# Altium schematic symbol library OS ARM.SchLib: 2 symbols
Pins are listed as number, name and electrical type; pins without a type are passive.

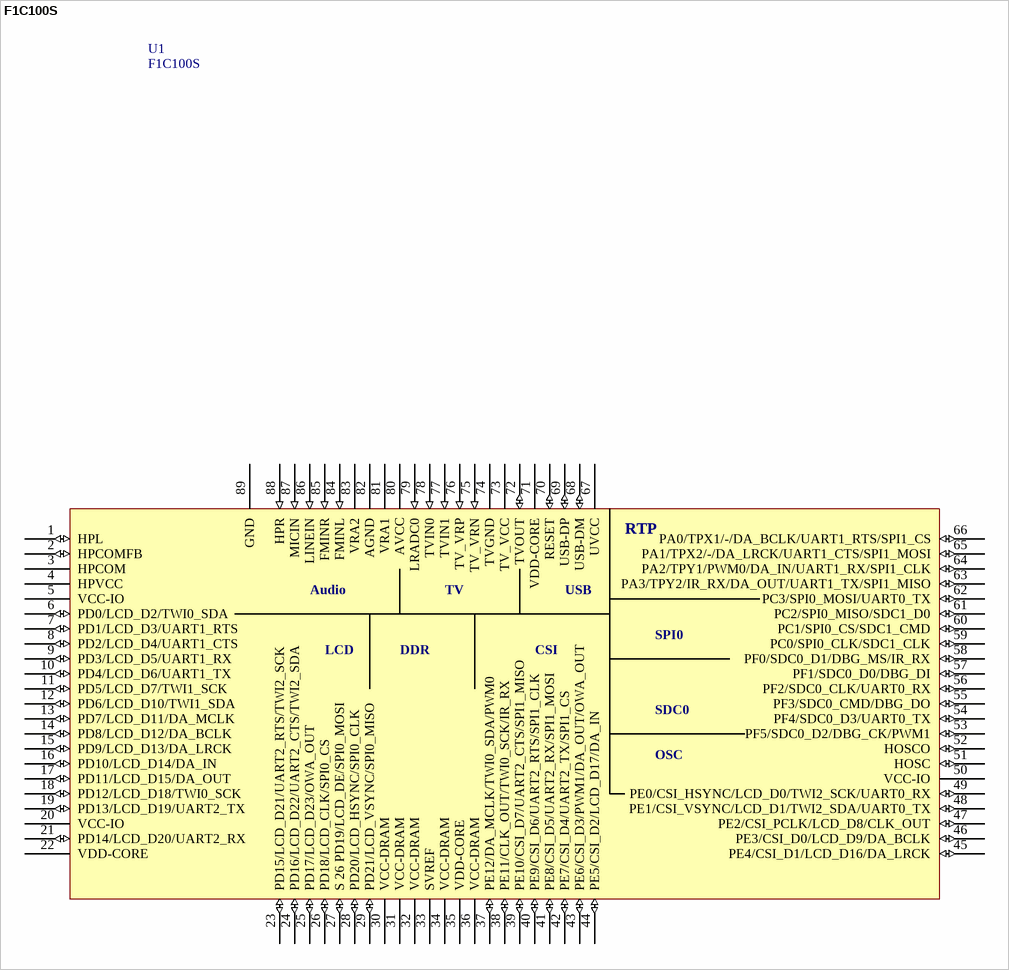
[diagram p0: symbol F1C100S]

## F1C100S
designator U1
Valu: F1C100S
footprint f1c200s-f1c100s
pins: 1 HPL (io), 2 HPCOMFB (io), 3 HPCOM, 4 HPVCC, 5 VCC-IO, 6 PD0/LCD_D2/TWI0_SDA (io), 7 PD1/LCD_D3/UART1_RTS (io), 8 PD2/LCD_D4/UART1_CTS (io), 9 PD3/LCD_D5/UART1_RX (io), 10 PD4/LCD_D6/UART1_TX (io), 11 PD5/LCD_D7/TWI1_SCK (io), 12 PD6/LCD_D10/TWI1_SDA (io), 13 PD7/LCD_D11/DA_MCLK (io), 14 PD8/LCD_D12/DA_BCLK (io), 15 PD9/LCD_D13/DA_LRCK (io), 16 PD10/LCD_D14/DA_IN (io), 17 PD11/LCD_D15/DA_OUT (io), 18 PD12/LCD_D18/TWI0_SCK (io), 19 PD13/LCD_D19/UART2_TX (io), 20 VCC-IO, 21 PD14/LCD_D20/UART2_RX (io), 22 VDD-CORE, 23 PD15/LCD_D21/UART2_RTS/TWI2_SCK (io), 24 PD16/LCD_D22/UART2_CTS/TWI2_SDA (io), 25 PD17/LCD_D23/OWA_OUT (io), 26 PD18/LCD_CLK/SPI0_CS (io), 27 S 26 PD19/LCD_DE/SPI0_MOSI (io), 28 PD20/LCD_HSYNC/SPI0_CLK (io), 29 PD21/LCD_VSYNC/SPI0_MISO (io), 30 VCC-DRAM, 31 VCC-DRAM, 32 VCC-DRAM, 33 SVREF, 34 VCC-DRAM, 35 VDD-CORE, 36 VCC-DRAM, 37 PE12/DA_MCLK/TWI0_SDA/PWM0 (io), 38 PE11/CLK_OUT/TWI0_SCK/IR_RX (io), 39 PE10/CSI_D7/UART2_CTS/SPI1_MISO (io), 40 PE9/CSI_D6/UART2_RTS/SPI1_CLK (io), 41 PE8/CSI_D5/UART2_RX/SPI1_MOSI (io), 42 PE7/CSI_D4/UART2_TX/SPI1_CS (io), 43 PE6/CSI_D3/PWM1/DA_OUT/OWA_OUT (io), 44 PE5/CSI_D2/LCD_D17/DA_IN (io), 45 PE4/CSI_D1/LCD_D16/DA_LRCK (io), 46 PE3/CSI_D0/LCD_D9/DA_BCLK (io), 47 PE2/CSI_PCLK/LCD_D8/CLK_OUT (io), 48 PE1/CSI_VSYNC/LCD_D1/TWI2_SDA/UART0_TX (io), 49 PE0/CSI_HSYNC/LCD_D0/TWI2_SCK/UART0_RX (io), 50 VCC-IO, 51 HOSC (io), 52 HOSCO (io), 53 PF5/SDC0_D2/DBG_CK/PWM1 (io), 54 PF4/SDC0_D3/UART0_TX (io), 55 PF3/SDC0_CMD/DBG_DO (io), 56 PF2/SDC0_CLK/UART0_RX (io), 57 PF1/SDC0_D0/DBG_DI (io), 58 PF0/SDC0_D1/DBG_MS/IR_RX (io), 59 PC0/SPI0_CLK/SDC1_CLK (io), 60 PC1/SPI0_CS/SDC1_CMD (io), 61 PC2/SPI0_MISO/SDC1_D0 (io), 62 PC3/SPI0_MOSI/UART0_TX (io), 63 PA3/TPY2/IR_RX/DA_OUT/UART1_TX/SPI1_MISO (io), 64 PA2/TPY1/PWM0/DA_IN/UART1_RX/SPI1_CLK (io), 65 PA1/TPX2/-/DA_LRCK/UART1_CTS/SPI1_MOSI (io), 66 PA0/TPX1/-/DA_BCLK/UART1_RTS/SPI1_CS (io), 67 UVCC, 68 USB-DM (io), 69 USB-DP (io), 70 RESET (io), 71 VDD-CORE, 72 TVOUT (io), 73 TV_VCC, 74 TVGND, 75 TV_VRN (in), 76 TV_VRP (in), 77 TVIN1 (in), 78 TVIN0 (in), 79 LRADC0 (in), 80 AVCC, 81 VRA1, 82 AGND, 83 VRA2, 84 FMINL (in), 85 FMINR (in), 86 LINEIN (in), 87 MICIN (in), 88 HPR (in), 89 GND
text: RTP; Audio; TV; USB; SPI0; LCD; DDR; CSI; SDC0; OSC

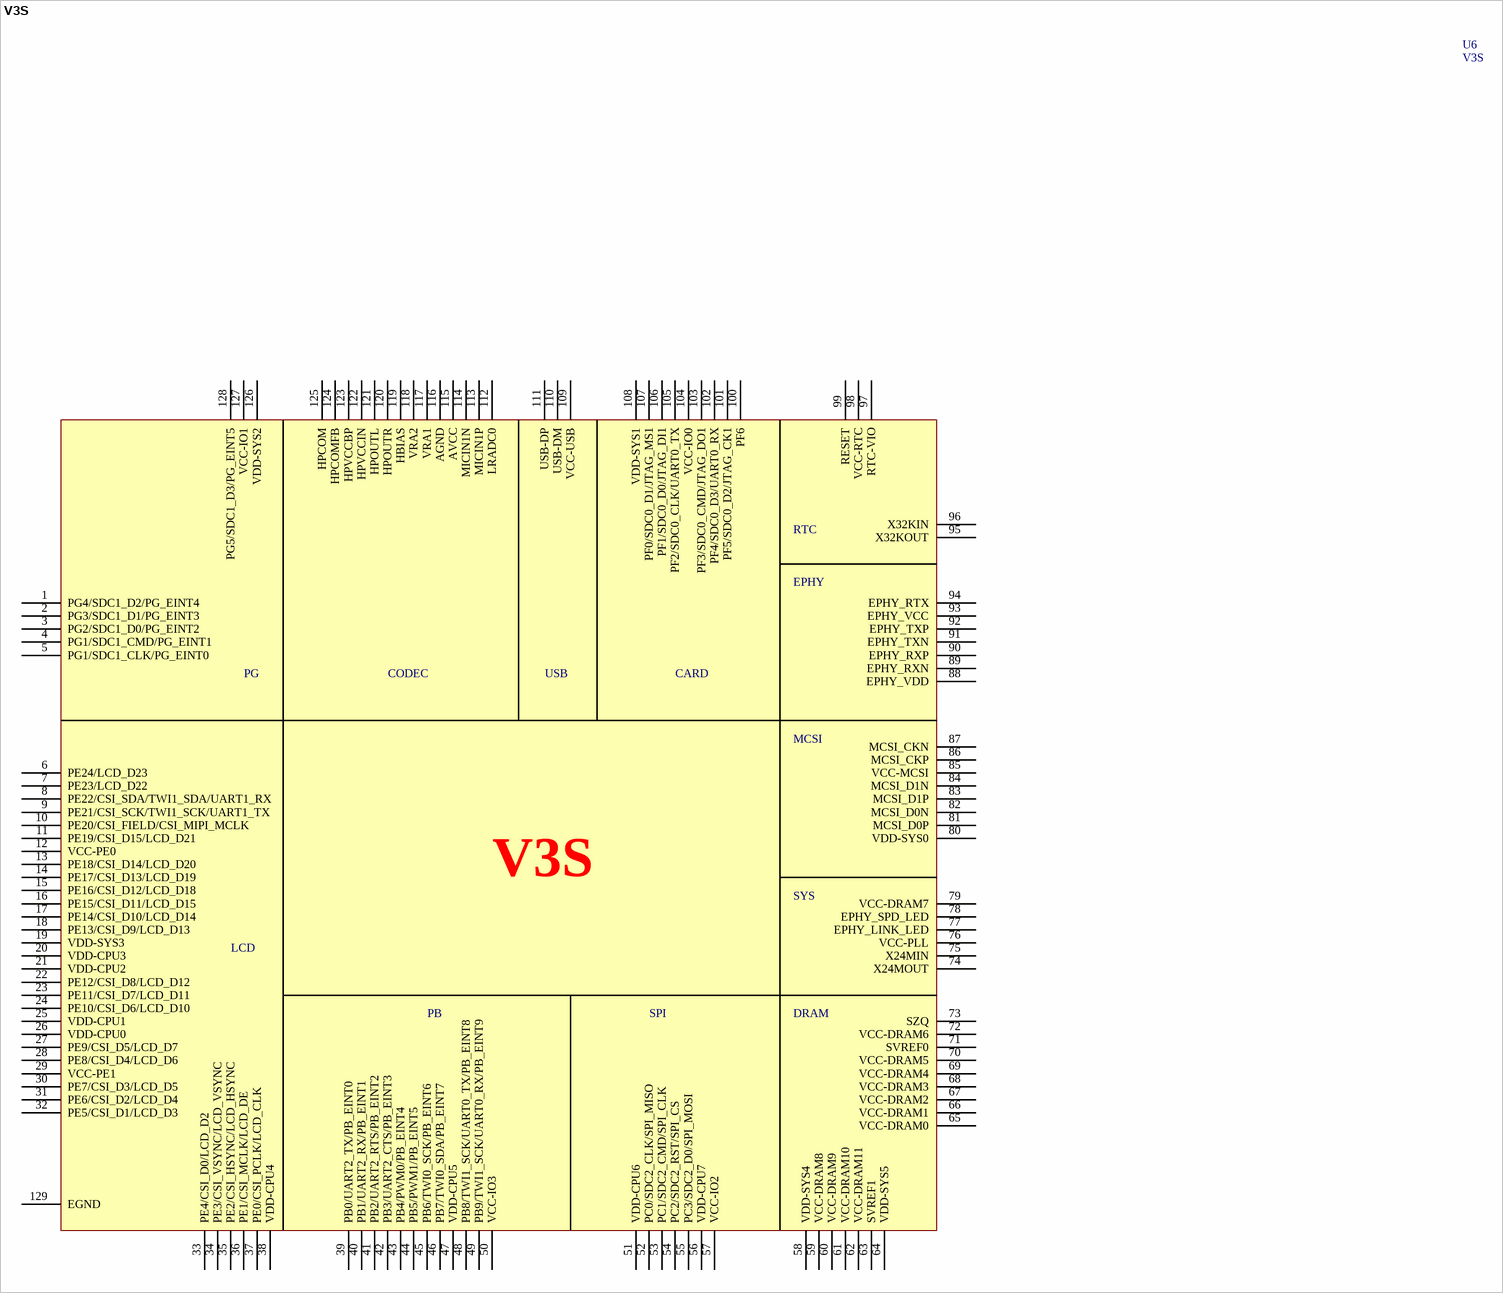
[diagram p1: symbol V3S]

## V3S
designator U6
Valu: V3S
footprint V3S
pins: 1 PG4/SDC1_D2/PG_EINT4, 2 PG3/SDC1_D1/PG_EINT3, 3 PG2/SDC1_D0/PG_EINT2, 4 PG1/SDC1_CMD/PG_EINT1, 5 PG1/SDC1_CLK/PG_EINT0, 6 PE24/LCD_D23, 7 PE23/LCD_D22, 8 PE22/CSI_SDA/TWI1_SDA/UART1_RX, 9 PE21/CSI_SCK/TWI1_SCK/UART1_TX, 10 PE20/CSI_FIELD/CSI_MIPI_MCLK, 11 PE19/CSI_D15/LCD_D21, 12 VCC-PE0, 13 PE18/CSI_D14/LCD_D20, 14 PE17/CSI_D13/LCD_D19, 15 PE16/CSI_D12/LCD_D18, 16 PE15/CSI_D11/LCD_D15, 17 PE14/CSI_D10/LCD_D14, 18 PE13/CSI_D9/LCD_D13, 19 VDD-SYS3, 20 VDD-CPU3, 21 VDD-CPU2, 22 PE12/CSI_D8/LCD_D12, 23 PE11/CSI_D7/LCD_D11, 24 PE10/CSI_D6/LCD_D10, 25 VDD-CPU1, 26 VDD-CPU0, 27 PE9/CSI_D5/LCD_D7, 28 PE8/CSI_D4/LCD_D6, 29 VCC-PE1, 30 PE7/CSI_D3/LCD_D5, 31 PE6/CSI_D2/LCD_D4, 32 PE5/CSI_D1/LCD_D3, 33 PE4/CSI_D0/LCD_D2, 34 PE3/CSI_VSYNC/LCD_VSYNC, 35 PE2/CSI_HSYNC/LCD_HSYNC, 36 PE1/CSI_MCLK/LCD_DE, 37 PE0/CSI_PCLK/LCD_CLK, 38 VDD-CPU4, 39 PB0/UART2_TX/PB_EINT0, 40 PB1/UART2_RX/PB_EINT1, 41 PB2/UART2_RTS/PB_EINT2, 42 PB3/UART2_CTS/PB_EINT3, 43 PB4/PWM0/PB_EINT4, 44 PB5/PWM1/PB_EINT5, 45 PB6/TWI0_SCK/PB_EINT6, 46 PB7/TWI0_SDA/PB_EINT7, 47 VDD-CPU5, 48 PB8/TWI1_SCK/UART0_TX/PB_EINT8, 49 PB9/TWI1_SCK/UART0_RX/PB_EINT9, 50 VCC-IO3, 51 VDD-CPU6, 52 PC0/SDC2_CLK/SPI_MISO, 53 PC1/SDC2_CMD/SPI_CLK, 54 PC2/SDC2_RST/SPI_CS, 55 PC3/SDC2_D0/SPI_MOSI, 56 VDD-CPU7, 57 VCC-IO2, 58 VDD-SYS4, 59 VCC-DRAM8, 60 VCC-DRAM9, 61 VCC-DRAM10, 62 VCC-DRAM11, 63 SVREF1, 64 VDD-SYS5, 65 VCC-DRAM0, 66 VCC-DRAM1, 67 VCC-DRAM2, 68 VCC-DRAM3, 69 VCC-DRAM4, 70 VCC-DRAM5, 71 SVREF0, 72 VCC-DRAM6, 73 SZQ, 74 X24MOUT, 75 X24MIN, 76 VCC-PLL, 77 EPHY_LINK_LED, 78 EPHY_SPD_LED, 79 VCC-DRAM7, 80 VDD-SYS0, 81 MCSI_D0P, 82 MCSI_D0N, 83 MCSI_D1P, 84 MCSI_D1N, 85 VCC-MCSI, 86 MCSI_CKP, 87 MCSI_CKN, 88 EPHY_VDD, 89 EPHY_RXN, 90 EPHY_RXP, 91 EPHY_TXN, 92 EPHY_TXP, 93 EPHY_VCC, 94 EPHY_RTX, 95 X32KOUT, 96 X32KIN, 97 RTC-VIO, 98 VCC-RTC, 99 RESET, 100 PF6, 101 PF5/SDC0_D2/JTAG_CK1, 102 PF4/SDC0_D3/UART0_RX, 103 PF3/SDC0_CMD/JTAG_DO1, 104 VCC-IO0, 105 PF2/SDC0_CLK/UART0_TX, 106 PF1/SDC0_D0/JTAG_DI1, 107 PF0/SDC0_D1/JTAG_MS1, 108 VDD-SYS1, 109 VCC-USB, 110 USB-DM, 111 USB-DP, 112 LRADC0, 113 MICIN1P, 114 MICIN1N, 115 AVCC, 116 AGND, 117 VRA1, 118 VRA2, 119 HBIAS, 120 HPOUTR, 121 HPOUTL, 122 HPVCCIN, 123 HPVCCBP, 124 HPCOMFB, 125 HPCOM, 126 VDD-SYS2, 127 VCC-IO1, 128 PG5/SDC1_D3/PG_EINT5, 129 EGND
text: RTC; EPHY; PG; CODEC; USB; CARD; MCSI; SYS; LCD; PB; SPI; DRAM